# Altium footprint library SMD-6.PcbLib: 1 footprints
Each footprint in its own frame and in the unit in brackets; x right, y up, seen from the top. Pads: shape width x height; smd on the part's side, far side on the other; paste and mask are expansions set on the pad; w line width, h text height; cw(c..) or ccw(c..) is an arc to the next point about the centre after c.
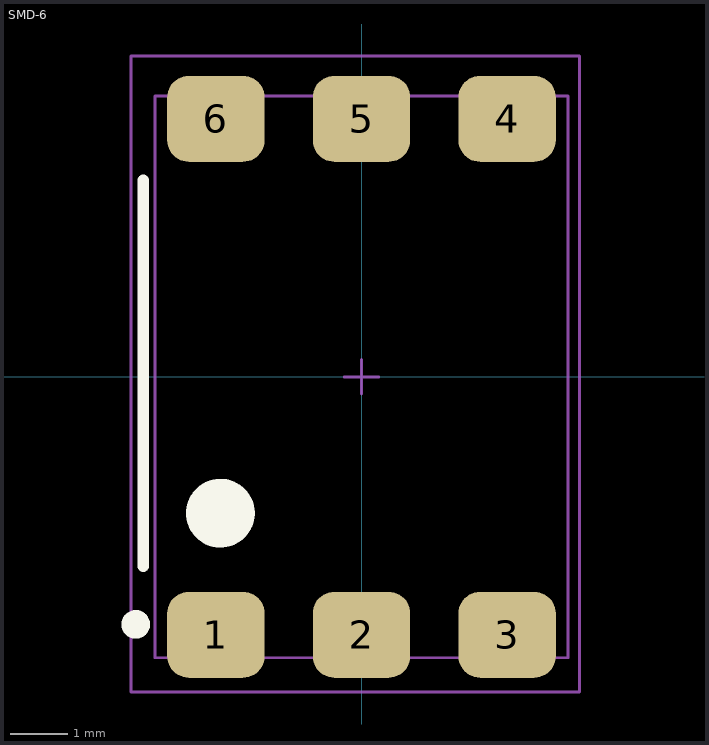
[diagram p0: the footprint, top view; thin cyan lines are the x and y axes]

## SMD-6 [mm]
pads (6):
  rrect50% 1.7x1.5 smd: 1(-2.54,-4.5) 2(0,-4.5) 3(2.54,-4.5) 4(2.54,4.5) 5(0,4.5) 6(-2.54,4.5)
Top Overlay:
  circle w0.25: c-3.937,-4.318 r0.125
  circle w0.6: c-2.461,-2.378 r0.3
  lines w0.2: -3.81,-3.302 -3.81,3.429
Top Assembly:
  circle w0.1: c-2.461,-2.378 r0.5
  lines w0.05: -0.3,0 0.3,0 ; 0,-0.3 0,0.3 ; -3.6,-4.9 -3.6,4.9 3.6,4.9 3.6,-4.9 -3.6,-4.9
Top Courtyard:
  lines w0.05: -4.018,-5.5 -4.018,-4.834 -4.018,5.6 3.8,5.6 3.8,-5.5 -4.018,-5.5
3D body "User Library-DIP-6-SMD.step": height 3.51, standoff -0.2, extent -3.625,-4.9 3.625,4.9